# EAGLE library part MOLEX_CONNECTOR_12PINS (library con-special_purpose)
Molex PicoBlade connector, 12 pins SMD
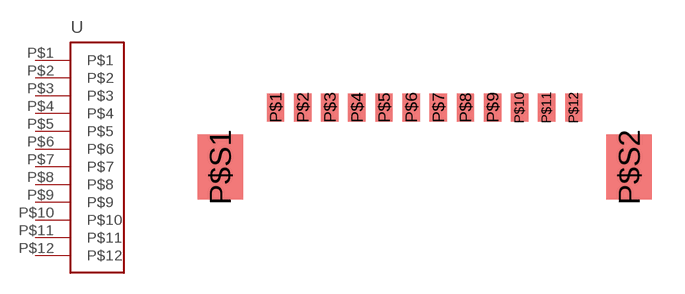
[diagram p15: symbol with the pads of MOLEX_CONNECTOR_12PINS; footprint MOLEX_CONNECTOR_12PINS]

Designator prefix -

## MOLEX_CONNECTOR_12PINS (PLACE_PART: YES)  [MOLEX_CONNECTOR_12PINS]
P$1  P$1
P$2  P$2
P$3  P$3
P$4  P$4
P$5  P$5
P$6  P$6
P$7  P$7
P$8  P$8
P$9  P$9
P$10  P$10
P$11  P$11
P$12  P$12

## Footprint MOLEX_CONNECTOR_12PINS (pad centres in mm)
smd 0.8 x 1.3: P$1 -5.3,0.62; P$2 -4.05,0.62; P$3 -2.8,0.62; P$4 -1.55,0.62; P$5 -0.3,0.62; P$6 0.95,0.62; P$7 2.2,0.62; P$8 3.45,0.62; P$9 4.7,0.62; P$10 5.95,0.62; P$11 7.2,0.62; P$12 8.45,0.62
smd 2.1 x 3: P$S1 -7.85,-2.13; P$S2 11,-2.13